# Altium schematic symbol library MBT-44+.SchLib: 1 symbol
Pins are listed as number, name and electrical type; pins without a type are passive.

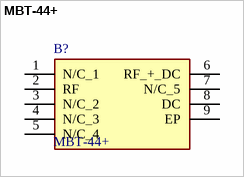
[diagram p0: symbol MBT-44+]

## MBT-44+
designator B?
MMIC BIAS TEE,50 10 to 40 GHz , 8L MCLP package; Manufacturer_Name: Mini-Circuits; Geometry.Height: 0.95mm; Mouser Part Number: 139-MBT-44+; Mouser Price/Stock: https://www.mouser.co.uk/ProductDetail/Mini-Circuits/MBT-44%2b?qs=3pZoU%2F6IRTgNg5fQOAQ8QA%3D%3D; Manufacturer_Part_Number: MBT-44+; Datasheet Link: https://www.minicircuits.com/pdfs/MBT-44+.pdf
footprint MBT44
pins: 1 N/C_1, 2 RF, 3 N/C_2, 4 N/C_3, 5 N/C_4, 6 RF_+_DC, 7 N/C_5, 8 DC, 9 EP